# Altium schematic symbol library Schlib1.SchLib: 2 symbols
Pins are listed as number, name and electrical type; pins without a type are passive.

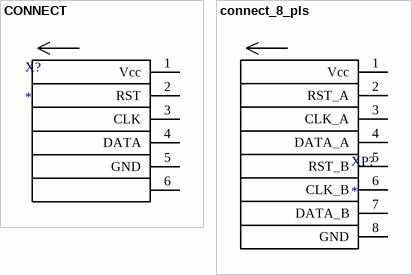
[diagram p0: symbols CONNECT to connect_8_pls]

## CONNECT
designator X?
footprint PLS-6
pins: 1 Vcc, 2 RST, 3 CLK, 4 DATA, 5 GND, 6

## connect_8_pls
designator XP?
footprint PLS-8
pins: 1 Vcc, 2 RST_A, 3 CLK_A, 4 DATA_A, 5 RST_B, 6 CLK_B, 7 DATA_B, 8 GND